# Altium footprint library cy.PcbLib: 99 footprints (part 5 of 7)
Each footprint in its own frame and in the unit in brackets; x right, y up, seen from the top. Pads: shape width x height; smd on the part's side, far side on the other; paste and mask are expansions set on the pad; w line width, h text height; cw(c..) or ccw(c..) is an arc to the next point about the centre after c.
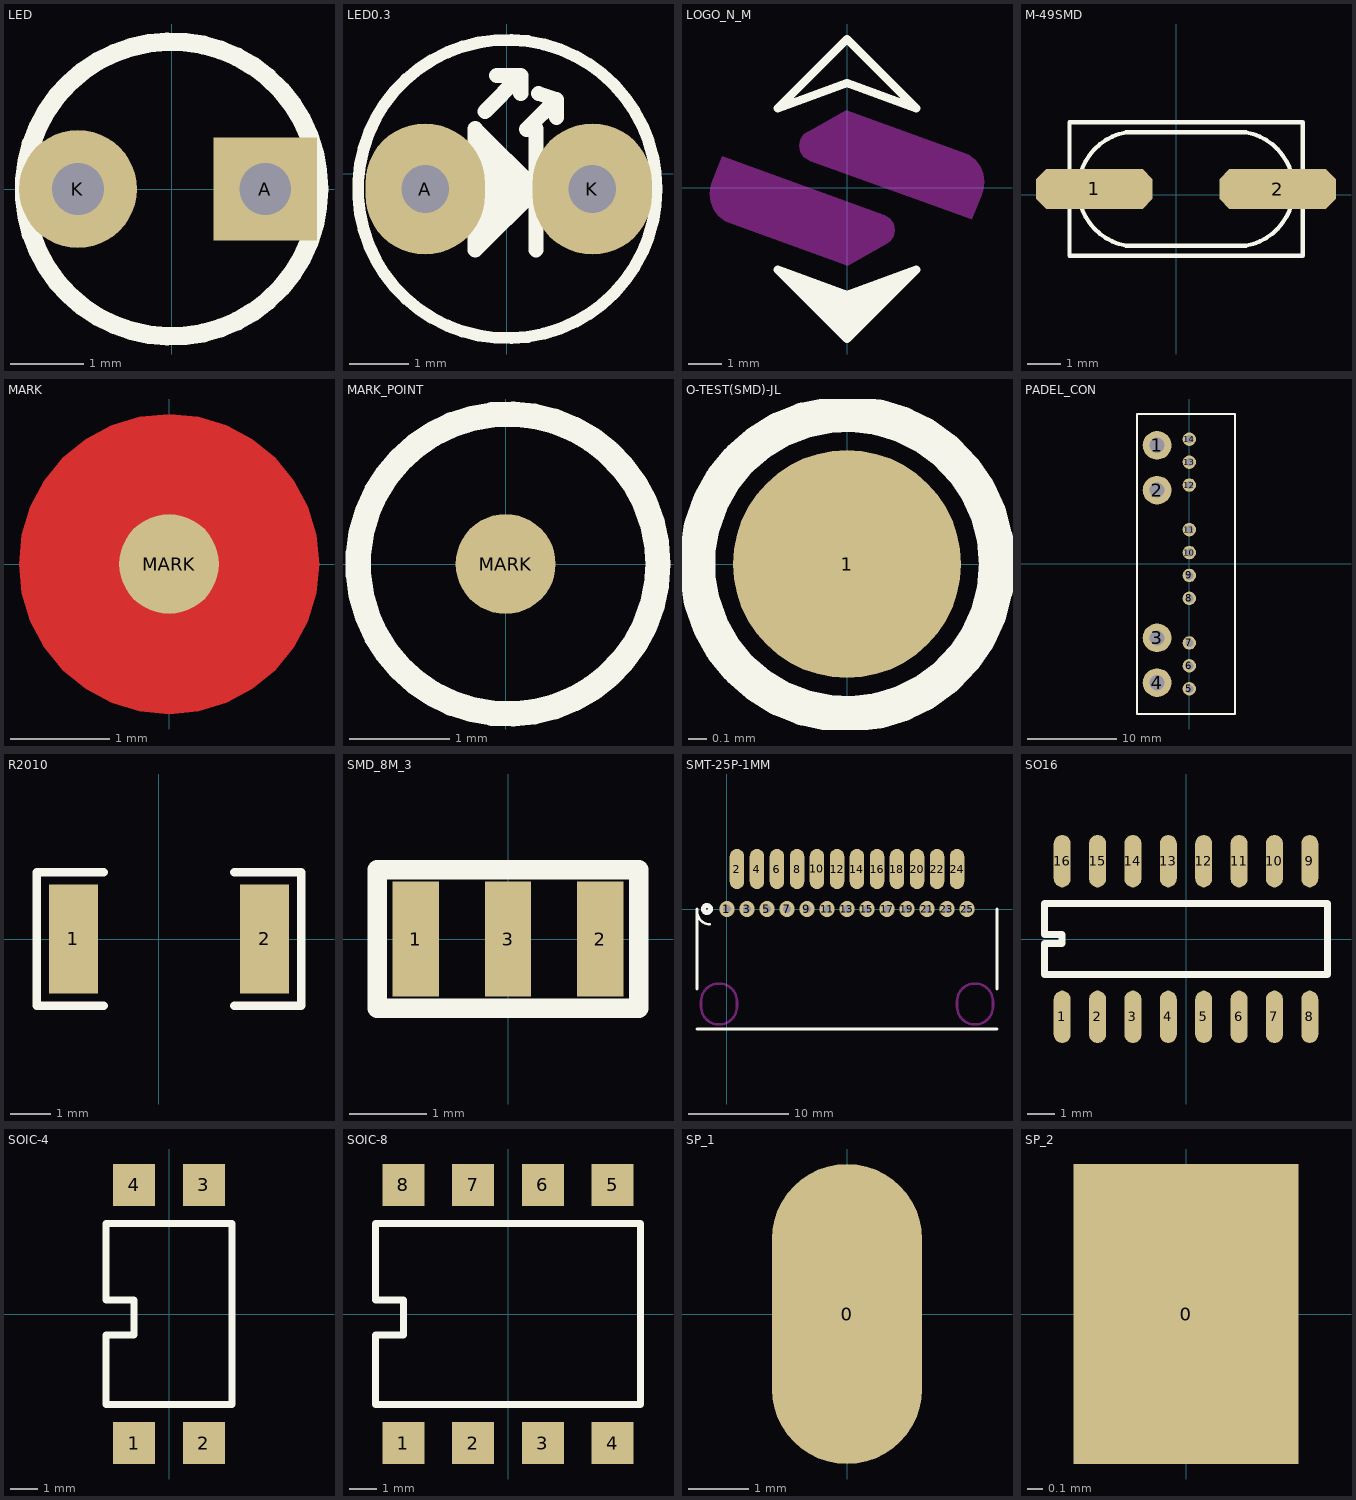
[diagram p4: the footprints below, top view; thin cyan lines are the x and y axes]

## LED [mm]
pads (2):
  rect 1.4x1.4 / inner round 1.4 / far side rect 1.4x1.4 hole 0.7: A(1.27,0)
  round 1.6 hole 0.7: K(-1.27,0)
Top Overlay:
  circle w0.254: c0,0 r2

## LED0.3 [mil]
pads (2):
  oval 78.74x86.61 hole 31.5: A(-53.94,-10) K(56.3,-10)
Top Overlay:
  circle w7.87: c0.2,-10 r98.42
  lines w10: -30.91,-10.28 -20.91,-10.28 -20.91,-12.95 18.11,-12.95 ; -20.91,-37.56 -10.63,-37.56 ; -20.91,13.62 -9.72,13.62 ; -14.57,41.18 9.05,64.8 ; -6.69,64.8 9.05,64.8 ; -1.51,-29.68 -20.91,-29.68 -20.91,-21.81 5.12,-21.81 ; 0.04,4.76 -20.91,4.76 -20.91,-3.11 8.45,-3.11 9.09,-10.28 29.09,-10.28 ; 9.05,52.99 9.05,64.8 ; 19.09,-50.28 19.09,29.72 12.99,29.37 32.68,49.05 ; 20.87,52.99 32.68,49.05 ; 32.68,37.24 32.68,49.05 ; -20.91,-50.28 -20.91,29.72 19.09,-10.28 -20.91,-50.28

## LOGO_N_M [mm]
Top Overlay:
  lines w0.254: -2.08,-2.443 0,-3.203 2.08,-2.443 0,-4.524 -2.08,-2.443 ; -2.08,2.377 0,4.458 2.08,2.377 0,3.137 -2.08,2.377
  lines w0.508: -1.473,-2.845 0,-4.089 1.473,-2.845 0,-3.556 -1.473,-2.845
Keep-Out Layer:
  region: -0.026,2.33 3.566,1.024 3.645,0.992 3.84,0.842 3.989,0.647 4.083,0.421 4.115,0.177 4.083,-0.066 4.029,-0.197 4.028,-0.198 3.742,-0.941 -1.125,0.819 -1.138,0.822 -1.292,0.925 -1.395,1.079 -1.432,1.262 -1.395,1.444 -1.292,1.599 -1.158,1.689 -1.156,1.684
  region: 0.026,-2.33 -3.567,-1.024 -3.645,-0.992 -3.84,-0.842 -3.99,-0.647 -4.083,-0.421 -4.115,-0.177 -4.083,0.066 -4.028,0.199 -4.028,0.198 -3.742,0.941 1.125,-0.819 1.138,-0.822 1.292,-0.925 1.395,-1.079 1.432,-1.262 1.395,-1.444 1.292,-1.599 1.158,-1.689 1.156,-1.684

## M-49SMD [mm]
pads (2):
  oct 3.5x1.2 smd: 1(-2.452,0.166) 2(3.048,0.166)
Top Overlay:
  lines w0.127: -3.2,-1.834 3.8,-1.834 3.8,2.166 -3.2,2.166 -3.2,-1.834 ; -1.5,-1.534 cw(c-1.2,0.166) -1.5,1.866 2.1,1.866 cw(c1.8,0.166) 2.1,-1.534 -1.5,-1.534

## MARK [mm]
pads (1):
  round 1 smd mask+1: MARK(0,0)
Top Layer:
  pour cut-out: 0,-1.507 -0.294,-1.478 -0.577,-1.393 -0.837,-1.253 -1.066,-1.066 -1.253,-0.837 -1.393,-0.577 -1.478,-0.294 -1.507,0 -1.478,0.294 -1.393,0.577 -1.253,0.837 -1.066,1.066 -0.837,1.253 -0.577,1.393 -0.294,1.478 0,1.507 0.294,1.478 0.577,1.393 0.837,1.253 1.066,1.066 1.253,0.837 1.393,0.577 1.478,0.294 1.507,0 1.478,-0.294 1.393,-0.577 1.253,-0.837 1.066,-1.066 0.837,-1.253 0.577,-1.393 0.294,-1.478

## MARK_POINT [mm]
pads (1):
  round 1 smd mask+1: MARK(0,0)
Top Overlay:
  circle w0.254: c0.024,0 r1.5

## O-TEST(SMD)-JL [mm]
pads (1):
  round 1.27 smd: 1(0,0)
Top Overlay:
  circle w0.2: c0,0 r0.835

## PADEL_CON [mm]
pads (14):
  round 3.2 hole 1.7: 1(-3.6,13.25) 2(-3.6,8.25) 3(-3.6,-8.25) 4(-3.6,-13.25)
  round 1.5 hole 0.9: 5(0,-13.935) 6(0,-11.375) 7(0,-8.815) 8(0,-3.84) 9(0,-1.28) 10(0,1.28) 11(0,3.84) 12(0,8.815) 13(0,11.375) 14(0,13.935)
Top Overlay:
  lines w0.254: -3.6,16.75 -5.846,16.75 ; -5.846,16.75 -5.846,-16.75 5.106,-16.75 5.106,16.75 -5.846,16.75

## R2010 [mm]
pads (2):
  rect 1.2x2.67 smd: 1(-2.086,0) 2(2.594,0)
Top Overlay:
  lines w0.2: -1.346,-1.635 -2.986,-1.635 -2.986,1.635 -1.346,1.635 ; 1.854,-1.635 3.494,-1.635 3.494,1.635 1.854,1.635
3D body: height 0.6, standoff 0, extent -2.246,-1.25 2.754,1.25

## SMD_8M_3 [mm]
pads (3):
  rect 0.6x1.5 smd: 1(-1.2,0) 2(1.2,0) 3(0,0)
Top Overlay:
  lines w0.254: -1.7,-0.9 -1.7,0.9 1.7,0.9 1.7,-0.9 -1.7,-0.9

## SMT-25P-1MM [mm]
pads (25):
  oval 1.5x1.6 hole 0.762: 1(0,0) 3(2,0) 5(4,0) 7(6,0) 9(8,0) 11(10,0) 13(12,0) 15(14,0) 17(16,0) 19(18,0) 21(20,0) 23(22,0) 25(24,0)
  oval 1.45x4 smd: 2(1,4) 4(3,4) 6(5,4) 8(7,4) 10(9,4) 12(11,4) 14(13,4) 16(15,4) 18(17,4) 20(19,4) 22(21,4) 24(23,4)
Top Overlay:
  circle w0.5: c-2,0 r0.35
  lines w0.254: -3,-12 27,-12 ; -3,-8 -3,0 ; -2.986,-0.254 ccw(c-1.716,-0.254) -1.716,-1.524 ; 27,-8 27,0
Keep-Out Layer:
  lines w0.254: -2.6,-9.75 ccw(c-0.8,-9.75) 1,-9.75 1,-9.25 ccw(c-0.8,-9.25) -2.6,-9.25 -2.6,-9.75 ; 23,-9.75 ccw(c24.8,-9.75) 26.6,-9.75 26.6,-9.25 ccw(c24.8,-9.25) 23,-9.25 23,-9.75

## SO16 [mil]
pads (16):
  oval 24x74 smd: 1(-175,-110) 2(-125,-110) 3(-75,-110) 4(-25,-110) 5(25,-110) 6(75,-110) 7(125,-110) 8(175,-110) 9(175,110) 10(125,110) 11(75,110) 12(25,110) 13(-25,110) 14(-75,110) 15(-125,110) 16(-175,110)
Top Overlay:
  lines w10: -200,-50 -200,-6.25 -175,-6.25 -175,6.25 -200,6.25 -200,50 200,50 200,-50 -200,-50

## SOIC-4 [mil]
pads (4):
  rect 60x60 smd: 1(-50,-185.04) 2(50,-185.04) 3(50,185.04) 4(-50,185.04)
Top Overlay:
  lines w10: -90,-130 -90,-30 -50,-30 -50,20 -90,20 -90,130 90,130 90,-130 -90,-130

## SOIC-8 [mil]
pads (8):
  rect 60x60 smd: 1(-150,-185.04) 2(-50,-185.04) 3(50,-185.04) 4(150,-185.04) 5(150,185.04) 6(50,185.04) 7(-50,185.04) 8(-150,185.04)
Top Overlay:
  lines w10: -190,-130 190,-130 190,130 -190,130 -190,20 -150,20 -150,-30 -190,-30 -190,-130

## SP_1 [mm]
pads (1):
  oval 2.5x5 smd: 0(0,0)

## SP_2 [mm]
pads (1):
  rect 1.5x2 smd: 0(0,0)